# EAGLE library part PCA9634 (library AlpsCherry)
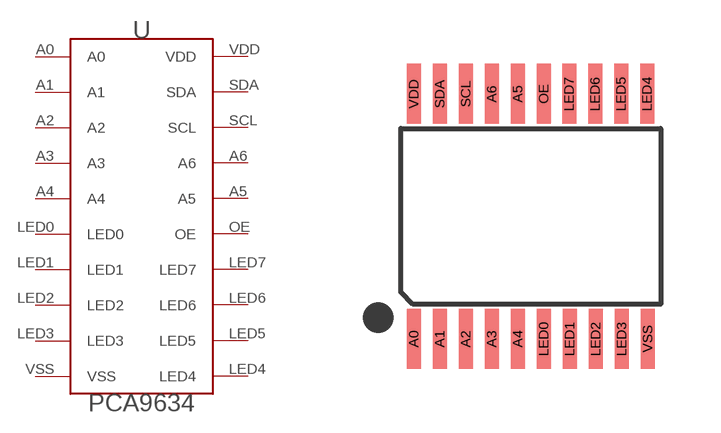
[diagram p0: symbol with the pads of P-PCA9634; footprint P-PCA9634]

Designator prefix -

## PCA9634  [P-PCA9634]
A0  A0
A1  A1
A2  A2
A3  A3
A4  A4
A5  A5
A6  A6
LED0  LED0
LED1  LED1
LED2  LED2
LED3  LED3
LED4  LED4
LED5  LED5
LED6  LED6
LED7  LED7
OE  OE
SCL  SCL
SDA  SDA
VDD  VDD
VSS  VSS

## Footprint P-PCA9634 (pad centres in mm)
PCA9634 8-bit Fm+ I2C-bus LED driver
smd 0.35 x 1.5: A0 -2.925,-3.065; A1 -2.275,-3.065; A2 -1.625,-3.065; A3 -0.975,-3.065; A4 -0.325,-3.065; A5 -0.325,3.065; A6 -0.975,3.065; LED0 0.325,-3.065; LED1 0.975,-3.065; LED2 1.625,-3.065; LED3 2.275,-3.065; LED4 2.91,3.065; LED5 2.26,3.065; LED6 1.61,3.065; LED7 0.96,3.065; OE 0.325,3.065; SCL -1.625,3.065; SDA -2.275,3.065; VDD -2.925,3.065; VSS 2.925,-3.065